# Altium schematic symbol library TYPEC.SchLib: 1 symbol
Pins are listed as number, name and electrical type; pins without a type are passive.

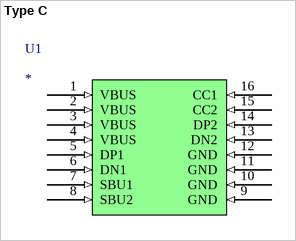
[diagram p0: symbol Type C]

## Type C
designator U1
footprint TYPEC_CONNECTOR
pins: 1 VBUS (in), 2 VBUS (in), 3 VBUS (in), 4 VBUS (in), 5 DP1 (in), 6 DN1 (in), 7 SBU1 (in), 8 SBU2 (in), 9 GND (in), 10 GND (in), 11 GND (in), 12 GND (in), 13 DN2 (in), 14 DP2 (in), 15 CC2 (in), 16 CC1 (in)